# Altium footprint library Pcb_cardio.PcbLib: 6 footprints
Each footprint in its own frame and in the unit in brackets; x right, y up, seen from the top. Pads: shape width x height; smd on the part's side, far side on the other; paste and mask are expansions set on the pad; w line width, h text height; cw(c..) or ccw(c..) is an arc to the next point about the centre after c.
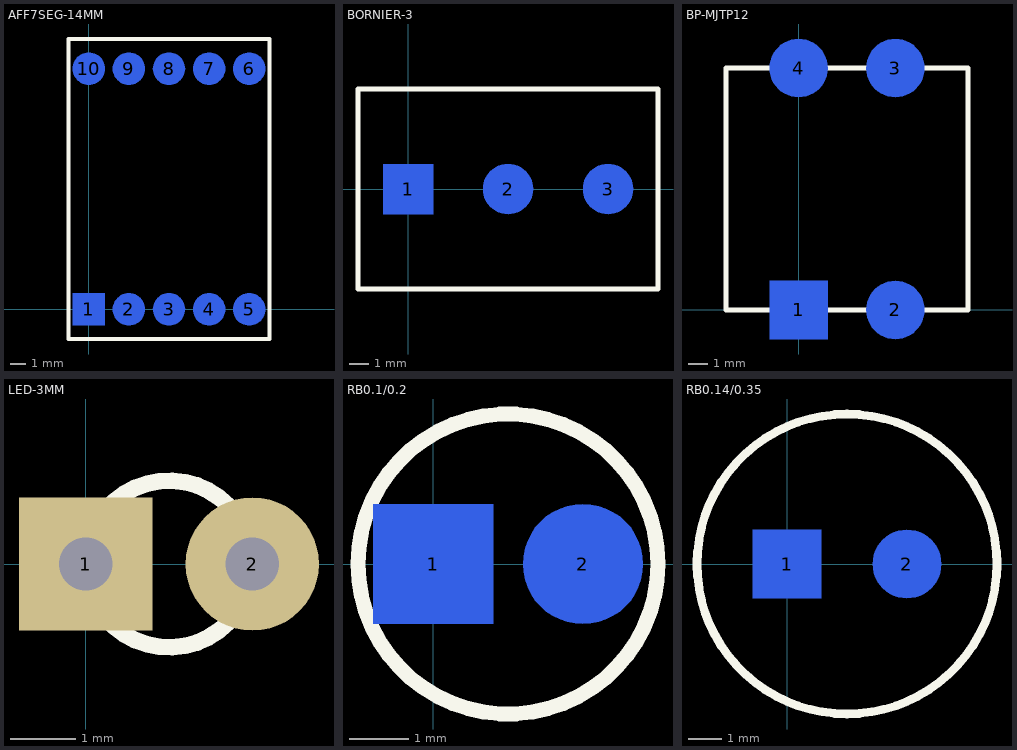
[diagram p0: the footprints below, top view; thin cyan lines are the x and y axes]

## AFF7SEG-14MM [mil] "Aff 7 seg (14mm) footprint"
pads (10):
  rect 80x80 smd far side: 1(0,0)
  round 80 smd far side: 2(100,0) 3(200,0) 4(300,0) 5(400,0) 6(400,600) 7(300,600) 8(200,600) 9(100,600) 10(0,600)
Top Layer:
  circle w20: c0,0 r26
  circle w20: c100,0 r26
  circle w20: c200,0 r26
  circle w20: c300,0 r26
  circle w20: c400,0 r26
  circle w20: c400,600 r26
  circle w20: c300,600 r26
  circle w20: c200,600 r26
  circle w20: c100,600 r26
  circle w20: c0,600 r26
Top Overlay:
  lines w10: -50,-74 -50,674 450,674 450,-74 -50,-74

## BORNIER-3 [mil] "BORNIER-3 footprint"
pads (3):
  rect 100x100 smd far side: 1(0,0)
  round 100 smd far side: 2(200,0) 3(400,0)
Top Layer:
  circle w20: c0,0 r26
  circle w20: c200,0 r26
  circle w20: c400,0 r26
Top Overlay:
  lines w10: -100,-200 -100,200 500,200 500,-200 -100,-200

## BP-MJTP12 [mil] "BP footprint"
pads (4):
  rect 120x120 smd far side: 1(0,0)
  round 120 smd far side: 2(200,0) 3(200,500) 4(0,500)
Top Layer:
  circle w20: c0,500 r26
  circle w20: c200,500 r26
  circle w20: c200,0 r26
  circle w20: c0,0 r26
Top Overlay:
  lines w10: -150,0 350,0 350,500 -150,500 -150,0

## LED-3MM [mil] "Led footprint"
pads (2):
  rect 80x80 hole 32: 1(0,0)
  round 80 hole 32: 2(100,0)
Top Overlay:
  circle w10: c50,0 r50

## RB0.1/0.2 [mil] "Capa < 100uF Footprint"
pads (2):
  rect 80x80 smd far side: 1(0,0)
  round 80 smd far side: 2(100,0)
Top Layer:
  circle w20: c100,0 r26
  circle w20: c0,0 r26
Top Overlay:
  circle w10: c50,0 r100

## RB0.14/0.35 [mil] "Capa <470 uF footprint"
pads (2):
  rect 80x80 smd far side: 1(0,0)
  round 80 smd far side: 2(140,0)
Top Layer:
  circle w20: c0,0 r26
  circle w20: c140,0 r26
Top Overlay:
  circle w10: c70,0 r175